# Altium integrated library PPPC021LFBN-RC.IntLib: 2 symbols
Pins are listed as number, name and electrical type; pins without a type are passive.

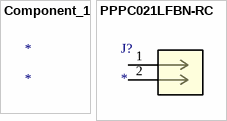
[diagram p0: symbols Component_1 to PPPC021LFBN-RC]

## Component_1
designator *

## PPPC021LFBN-RC
designator J?
No Description Available; Mfr_Name: Sullins; RefDes: RefDes; Type: Type
footprint CONN_PPPC021_SUL
pins: 1, 2